# Altium integrated library SparkFun-IC-Conversion.Library.IntLib: 14 symbols
Pins are listed as number, name and electrical type; pins without a type are passive.

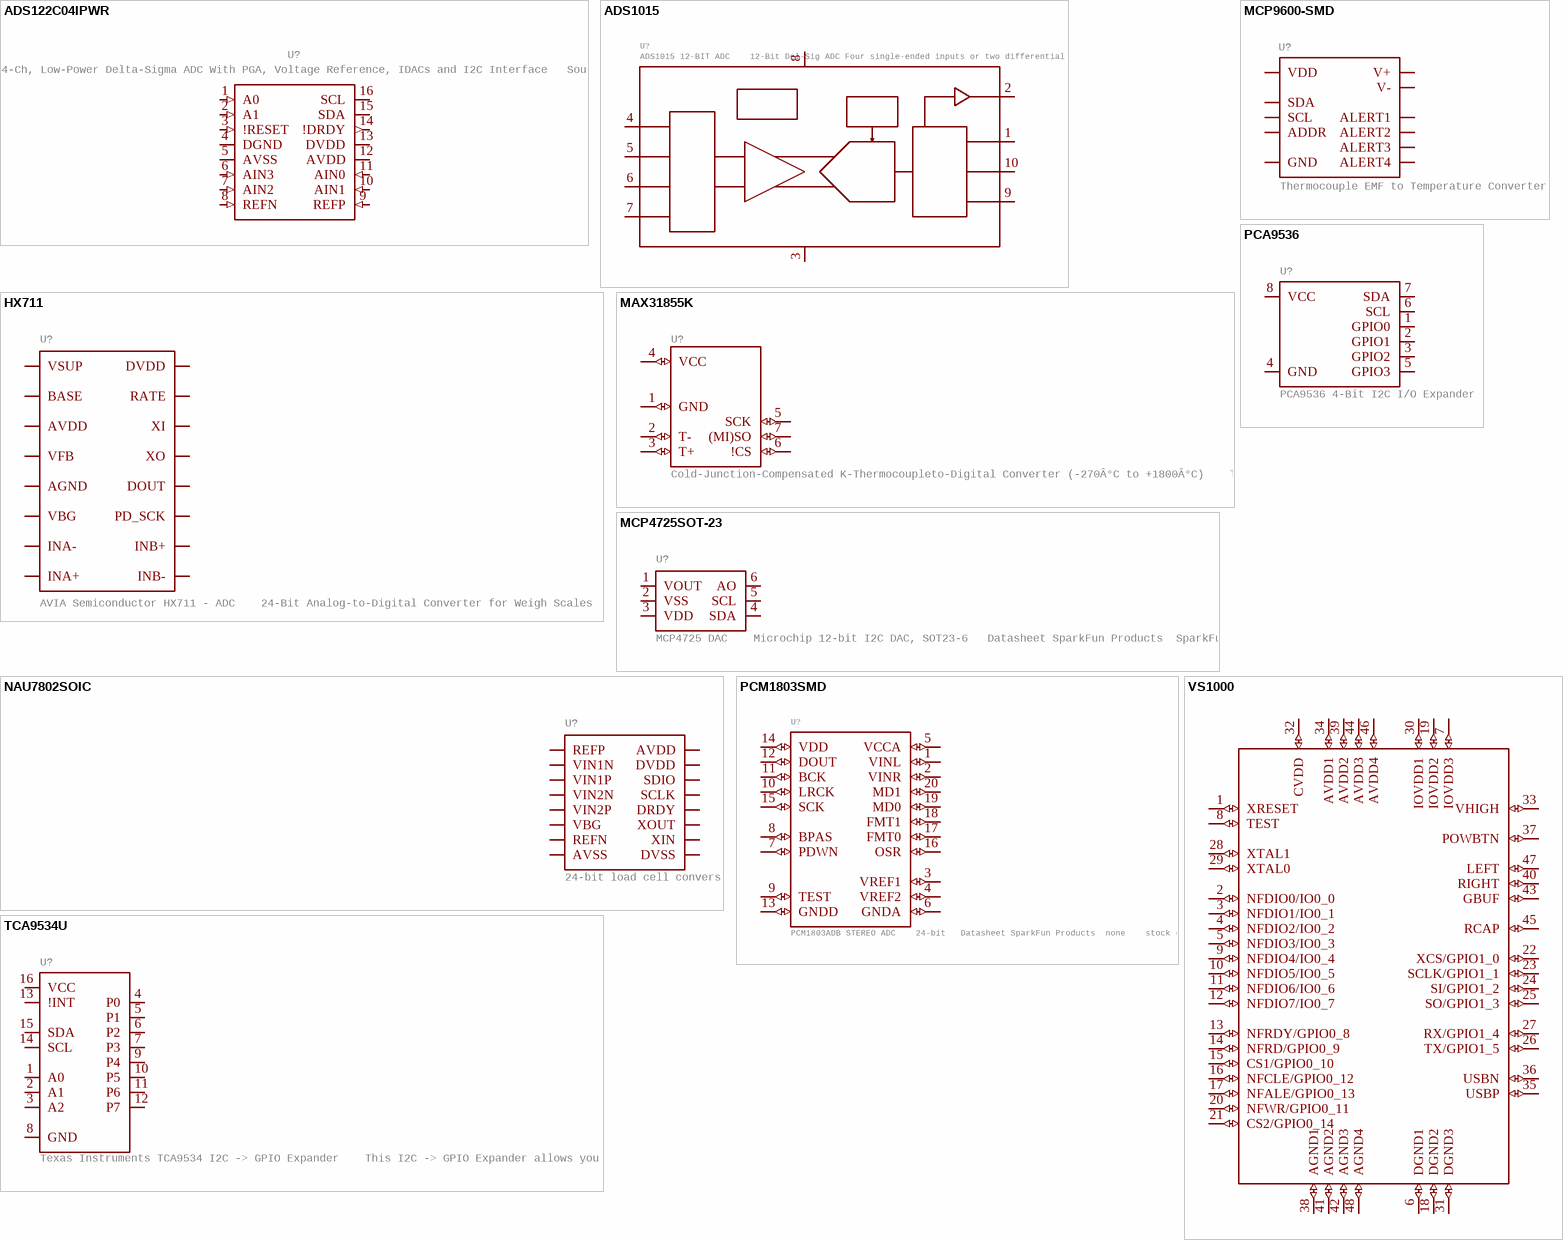
[diagram p0: symbols ADS122C04IPWR to VS1000]

## ADS122C04IPWR
designator U?, comment 24-Bit, 2kSPS, 4-Ch, Low-Power Delta-Sigma ADC With PGA, Voltage Reference, IDACs and I2C Interface   Source:  Datasheet
MANUFACTURER_NAME: Texas Instruments; GateName_1: G$1; SymbolName_1: ADS122C04IPWR; PROD_ID: IC-15119; LibraryName: SparkFun-IC-Conversion; DeviceSetName: ADS122C04IPWR; Package: SOP65P640X120-16N; HEIGHT: 1.2mm; MANUFACTURER_PART_NUMBER: ADS122C04IPWR; MOUSER_PART_NUMBER: 595-ADS122C04IPWR
footprint SOP65P640X120-16N
pins: 1 A0 (in), 2 A1 (in), 3 !RESET (in), 4 DGND (power), 5 AVSS (power), 6 AIN3 (in), 7 AIN2 (in), 8 REFN (in), 9 REFP (in), 10 AIN1 (in), 11 AIN0 (in), 12 AVDD (power), 13 DVDD (power), 14 !DRDY (out), 15 SDA (io), 16 SCL (io)

## ADS1015
designator U?, comment ADS1015 12-BIT ADC    12-Bit Del-Sig ADC Four single-ended inputs or two differential inputs Internal PGA I2C interface 2.0-5.5V  SparkFun Products  SparkFun Block for Intel Edison - ADC (DEV-13770)
GateName_1: G$1; PROD_ID: IC-12270; SymbolName_1: ADS1015; LibraryName: SparkFun-IC-Conversion; DeviceSetName: ADS1015; Package: MSOP10
footprint MSOP10
pins: 1 ADDR (io), 2 ALERT/RDY (io), 3 VSS (io), 4 AIN0 (io), 5 AIN1 (io), 6 AIN2 (io), 7 AIN3 (io), 8 VDD (io), 9 SDA (io), 10 SCL (io)

## HX711
designator U?, comment AVIA Semiconductor HX711 - ADC    24-Bit Analog-to-Digital Converter for Weigh Scales  Datasheet    SparkFun Products: SparkFun Load Cell Amplifier - HX711
GateName_1: U1; PROD_ID: IC-12445; SymbolName_1: HX711; LibraryName: SparkFun-IC-Conversion; DeviceSetName: HX711; Package: SO16
footprint SO16
pins: 1 VSUP (io), 2 BASE (io), 3 AVDD (io), 4 VFB (io), 5 AGND (io), 6 VBG (io), 7 INA- (io), 8 INA+ (io), 9 INB- (io), 10 INB+ (io), 11 PD_SCK (io), 12 DOUT (io), 13 XO (io), 14 XI (io), 15 RATE (io), 16 DVDD (io)

## MAX31855K
designator U?, comment Cold-Junction-Compensated K-Thermocoupleto-Digital Converter (-270Â°C to +1800Â°C)    The MAX31855K performs cold-junction compensation and digitizes the signal from a type-K thermocouple. The data is output in a 14-bit resolution, SPIâ„¢-compatible, read-only format. This converter resolves temperatures to 0.25Â°C, allows readings as high as +1800Â°C and as low as -270Â°C, and exhibits thermocouple accuracy of Â±2Â°C for temperatures ranging from -200Â°C to +700Â°C for K-type thermocouples.   Datasheet SparkFun Products  SparkFun Thermocouple Breakout - MAX31855K (SEN-13266)
GateName_1: G$1; PROD_ID: IC-12578; SymbolName_1: MAX31855K; LibraryName: SparkFun-IC-Conversion; DeviceSetName: MAX31855K; Package: SO08
footprint SO08
pins: 1 GND (io), 2 T- (io), 3 T+ (io), 4 VCC (io), 5 SCK (io), 6 !CS (io), 7 (MI)SO (io)

## MCP4725SOT-23
designator U?, comment MCP4725 DAC    Microchip 12-bit I2C DAC, SOT23-6   Datasheet SparkFun Products  SparkFun I2C DAC Breakout - MCP4725 (BOB-12918)
GateName_1: U1; DeviceName: SOT-23; PROD_ID: IC-08886; SymbolName_1: MCP4725; LibraryName: SparkFun-IC-Conversion; DeviceSetName: MCP4725; Package: SOT23-6
footprint SOT23-6
pins: 1 VOUT (io), 2 VSS (io), 3 VDD (io), 4 SDA (io), 5 SCL (io), 6 AO (io)

## MCP9600-SMD
designator U?, comment Thermocouple EMF to Temperature Converter
GateName_1: U1; SymbolName_1: MCP9600; DeviceName: -SMD; PROD_ID: IC-14644; LibraryName: SparkFun-IC-Conversion; DeviceSetName: MCP9600; Package: MQFN-20
footprint MQFN-20
pins: 1,3,5,6,7,9,10,13,17,18,21 GND (io), 2 V+ (io), 4 V- (io), 8 VDD (io), 11 ALERT1 (io), 12 ALERT2 (io), 14 ALERT3 (io), 15 ALERT4 (io), 16 ADDR (io), 19 SCL (io), 20 SDA (io)

## NAU7802SOIC
designator U?, comment 24-bit load cell conversion IC with I2C interface in SOIC-16 package. Similar to HX711 but with true I2C interface.
GateName_1: U1; SymbolName_1: NAU7802; DeviceName: SOIC; PROD_ID: IC-14299; LibraryName: SparkFun-IC-Conversion; DeviceSetName: NAU7802; Package: SO16
footprint SO16
pins: 1 REFP (io), 2 VIN1N (io), 3 VIN1P (io), 4 VIN2N (io), 5 VIN2P (io), 6 VBG (io), 7 REFN (io), 8 AVSS (io), 9 DVSS (io), 10 XIN (io), 11 XOUT (io), 12 DRDY (io), 13 SCLK (io), 14 SDIO (io), 15 DVDD (io), 16 AVDD (io)

## PCA9536
designator U?, comment PCA9536 4-Bit I2C I/O Expander
GateName_1: U1; PROD_ID: IC-15034; SymbolName_1: PCA9536; LibraryName: SparkFun-IC-Conversion; DeviceSetName: PCA9536; Package: MSOP8
footprint MSOP8
pins: 1 GPIO0 (io), 2 GPIO1 (io), 3 GPIO2 (io), 4 GND (io), 5 GPIO3 (io), 6 SCL (io), 7 SDA (io), 8 VCC (io)

## PCM1803SMD
designator U?, comment PCM1803ADB STEREO ADC    24-bit   Datasheet SparkFun Products  none    stock = 62
GateName_1: G$1; DeviceName: SMD; PROD_ID: IC-09251; SymbolName_1: PCM1803A; LibraryName: SparkFun-IC-Conversion; DeviceSetName: PCM1803; Package: SSOP20
footprint SSOP20
pins: 1 VINL (io), 2 VINR (io), 3 VREF1 (io), 4 VREF2 (io), 5 VCCA (io), 6 GNDA (io), 7 PDWN (io), 8 BPAS (io), 9 TEST (io), 10 LRCK (io), 11 BCK (io), 12 DOUT (io), 13 GNDD (io), 14 VDD (io), 15 SCK (io), 16 OSR (io), 17 FMT0 (io), 18 FMT1 (io), 19 MD0 (io), 20 MD1 (io)

## TCA9534U
designator U?, comment Texas Instruments TCA9534 I2C -> GPIO Expander    This I2C -> GPIO Expander allows you to attach 8 GPIO to your I2C bus. With 8 different addresses, up to 64 GPIO are possible on one I2C bus
GateName_1: U1; DeviceName: U; PROD_ID: IC-14889; SymbolName_1: TCA9534; LibraryName: SparkFun-IC-Conversion; DeviceSetName: TCA9534; Package: 16SOIC
footprint 16SOIC
pins: 1 A0 (io), 2 A1 (io), 3 A2 (io), 4 P0 (io), 5 P1 (io), 6 P2 (io), 7 P3 (io), 8 GND (io), 9 P4 (io), 10 P5 (io), 11 P6 (io), 12 P7 (io), 13 !INT (io), 14 SCL (io), 15 SDA (io), 16 VCC (io)

## VS1000
designator ?, comment VS1000D    Ogg Vorbis Player IC with USB and NAND FLASH Interface 12 MHz LQFP-48        Datasheet SparkFun Products  Storefront component: Ogg Vorbis Codec IC - VS1000D (COM-08300)  (value not drawn)
GateName_1: G$1; SymbolName_1: VS1000; PROD_ID: LPA-12743; LibraryName: SparkFun-IC-Conversion; DeviceSetName: VS1000; Package: LQFP-48
footprint LQFP-48
pins: 1 XRESET (io), 2 NFDIO0/IO0_0 (io), 3 NFDIO1/IO0_1 (io), 4 NFDIO2/IO0_2 (io), 5 NFDIO3/IO0_3 (io), 6 DGND1 (io), 7 IOVDD3 (io), 8 TEST (io), 9 NFDIO4/IO0_4 (io), 10 NFDIO5/IO0_5 (io), 11 NFDIO6/IO0_6 (io), 12 NFDIO7/IO0_7 (io), 13 NFRDY/GPIO0_8 (io), 14 NFRD/GPIO0_9 (io), 15 CS1/GPIO0_10 (io), 16 NFCLE/GPIO0_12 (io), 17 NFALE/GPIO0_13 (io), 18 DGND2 (io), 19 IOVDD2 (io), 20 NFWR/GPIO0_11 (io), 21 CS2/GPIO0_14 (io), 22 XCS/GPIO1_0 (io), 23 SCLK/GPIO1_1 (io), 24 SI/GPIO1_2 (io), 25 SO/GPIO1_3 (io), 26 TX/GPIO1_5 (io), 27 RX/GPIO1_4 (io), 28 XTAL1 (io), 29 XTAL0 (io), 30 IOVDD1 (io), 31 DGND3 (io), 32 CVDD (io), 33 VHIGH (io), 34 AVDD1 (io), 35 USBP (io), 36 USBN (io), 37 POWBTN (io), 38 AGND1 (io), 39 AVDD2 (io), 40 RIGHT (io), 41 AGND2 (io), 42 AGND3 (io), 43 GBUF (io), 44 AVDD3 (io), 45 RCAP (io), 46 AVDD4 (io), 47 LEFT (io), 48 AGND4 (io)

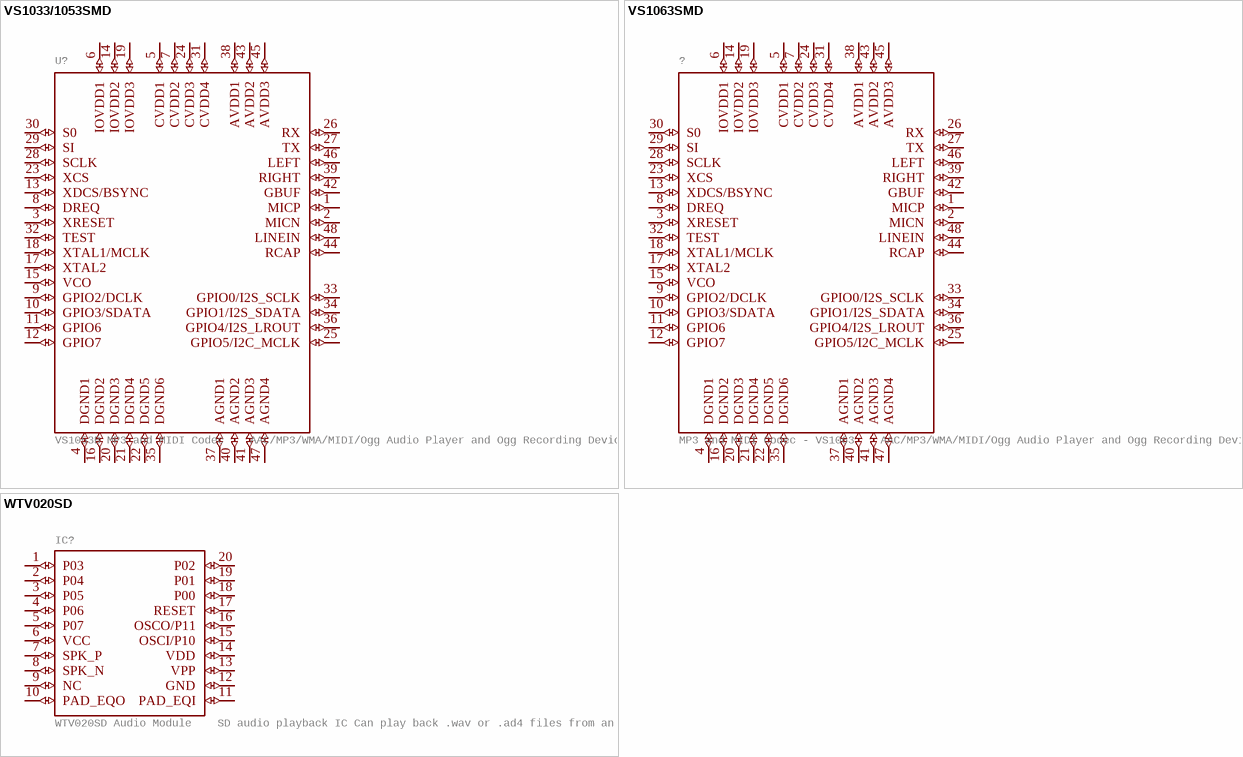
[diagram p1: symbols VS1033/1053SMD to WTV020SD]

## VS1033/1053SMD
designator U?, comment VS1053B MP3 and MIDI Codec    AAC/MP3/WMA/MIDI/Ogg Audio Player and Ogg Recording Device LQFP-48 7x7x1.4 mm   Datasheet SparkFun Products  Storefront component: MP3 and MIDI Codec - VS1053B (COM-08892)  SparkFun MP3 Player Shield (DEV-12660)  LilyPad MP3 (DEV-11013)  SparkFun Music Instrument Shield (DEV-10587)
GateName_1: G$1; SymbolName_1: VS1033D; DeviceName: SMD; DeviceSetName: VS1033/1053; PROD_ID: IC-12665; LibraryName: SparkFun-IC-Conversion; Package: LQFP-48
footprint LQFP-48
pins: 1 MICP (io), 2 MICN (io), 3 XRESET (io), 4 DGND1 (io), 5 CVDD1 (io), 6 IOVDD1 (io), 7 CVDD2 (io), 8 DREQ (io), 9 GPIO2/DCLK (io), 10 GPIO3/SDATA (io), 11 GPIO6 (io), 12 GPIO7 (io), 13 XDCS/BSYNC (io), 14 IOVDD2 (io), 15 VCO (io), 16 DGND2 (io), 17 XTAL2 (io), 18 XTAL1/MCLK (io), 19 IOVDD3 (io), 20 DGND3 (io), 21 DGND4 (io), 22 DGND5 (io), 23 XCS (io), 24 CVDD3 (io), 25 GPIO5/I2C_MCLK (io), 26 RX (io), 27 TX (io), 28 SCLK (io), 29 SI (io), 30 S0 (io), 31 CVDD4 (io), 32 TEST (io), 33 GPIO0/I2S_SCLK (io), 34 GPIO1/I2S_SDATA (io), 35 DGND6 (io), 36 GPIO4/I2S_LROUT (io), 37 AGND1 (io), 38 AVDD1 (io), 39 RIGHT (io), 40 AGND2 (io), 41 AGND3 (io), 42 GBUF (io), 43 AVDD2 (io), 44 RCAP (io), 45 AVDD3 (io), 46 LEFT (io), 47 AGND4 (io), 48 LINEIN (io)

## VS1063SMD
designator ?, comment MP3 and MIDI Codec - VS1063    AAC/MP3/WMA/MIDI/Ogg Audio Player and Ogg Recording Device LQFP-48 7x7x1.4 mm   Datasheet SparkFun Products  Storefront component:  MP3 and MIDI Codec - VS1063 (COM-11025)
GateName_1: G$1; SymbolName_1: VS1033D; DeviceName: SMD; PROD_ID: IC-10870; LibraryName: SparkFun-IC-Conversion; DeviceSetName: VS1063; Package: LQFP-48
footprint LQFP-48
pins: 1 MICP (io), 2 MICN (io), 3 XRESET (io), 4 DGND1 (io), 5 CVDD1 (io), 6 IOVDD1 (io), 7 CVDD2 (io), 8 DREQ (io), 9 GPIO2/DCLK (io), 10 GPIO3/SDATA (io), 11 GPIO6 (io), 12 GPIO7 (io), 13 XDCS/BSYNC (io), 14 IOVDD2 (io), 15 VCO (io), 16 DGND2 (io), 17 XTAL2 (io), 18 XTAL1/MCLK (io), 19 IOVDD3 (io), 20 DGND3 (io), 21 DGND4 (io), 22 DGND5 (io), 23 XCS (io), 24 CVDD3 (io), 25 GPIO5/I2C_MCLK (io), 26 RX (io), 27 TX (io), 28 SCLK (io), 29 SI (io), 30 S0 (io), 31 CVDD4 (io), 32 TEST (io), 33 GPIO0/I2S_SCLK (io), 34 GPIO1/I2S_SDATA (io), 35 DGND6 (io), 36 GPIO4/I2S_LROUT (io), 37 AGND1 (io), 38 AVDD1 (io), 39 RIGHT (io), 40 AGND2 (io), 41 AGND3 (io), 42 GBUF (io), 43 AVDD2 (io), 44 RCAP (io), 45 AVDD3 (io), 46 LEFT (io), 47 AGND4 (io), 48 LINEIN (io)

## WTV020SD
designator IC?, comment WTV020SD Audio Module    SD audio playback IC Can play back .wav or .ad4 files from an SD card SPI control or digital input trigger control available in SSOP-20 or DIP-20   Datasheet SparkFun Products  SparkFun Audio-Sound Breakout - WTV020SD (WIG-11125)
GateName_1: G$1; SymbolName_1: WTV020SD-20S; PROD_ID: IC-11012; LibraryName: SparkFun-IC-Conversion; DeviceSetName: WTV020SD; Package: SSOP_20
footprint SSOP_20
pins: 1 P03 (io), 2 P04 (io), 3 P05 (io), 4 P06 (io), 5 P07 (io), 6 VCC (io), 7 SPK_P (io), 8 SPK_N (io), 9 NC (io), 10 PAD_EQO (io), 11 PAD_EQI (io), 12 GND (io), 13 VPP (io), 14 VDD (io), 15 OSCI/P10 (io), 16 OSCO/P11 (io), 17 RESET (io), 18 P00 (io), 19 P01 (io), 20 P02 (io)